# Altium schematic symbol library BD433M5FP-CE2.SchLib: 1 symbol
Pins are listed as number, name and electrical type; pins without a type are passive.

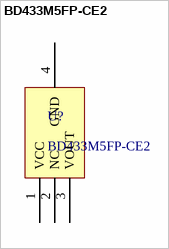
[diagram p0: symbol BD433M5FP-CE2]

## BD433M5FP-CE2
designator U?
BD433M5FP-CE2 / LDO 3.3V 500mV; Manufacturer: ROHM Semiconductor; Reference: BD433M5FP-CE2
pins: 1 VCC (power), 2 NC, 3 VOUT, 4 GND